# Altium footprint library SamacSys.PcbLib: 28 footprints (part 1 of 2)
Each footprint in its own frame and in the unit in brackets; x right, y up, seen from the top. Pads: shape width x height; smd on the part's side, far side on the other; paste and mask are expansions set on the pad; w line width, h text height; cw(c..) or ccw(c..) is an arc to the next point about the centre after c.
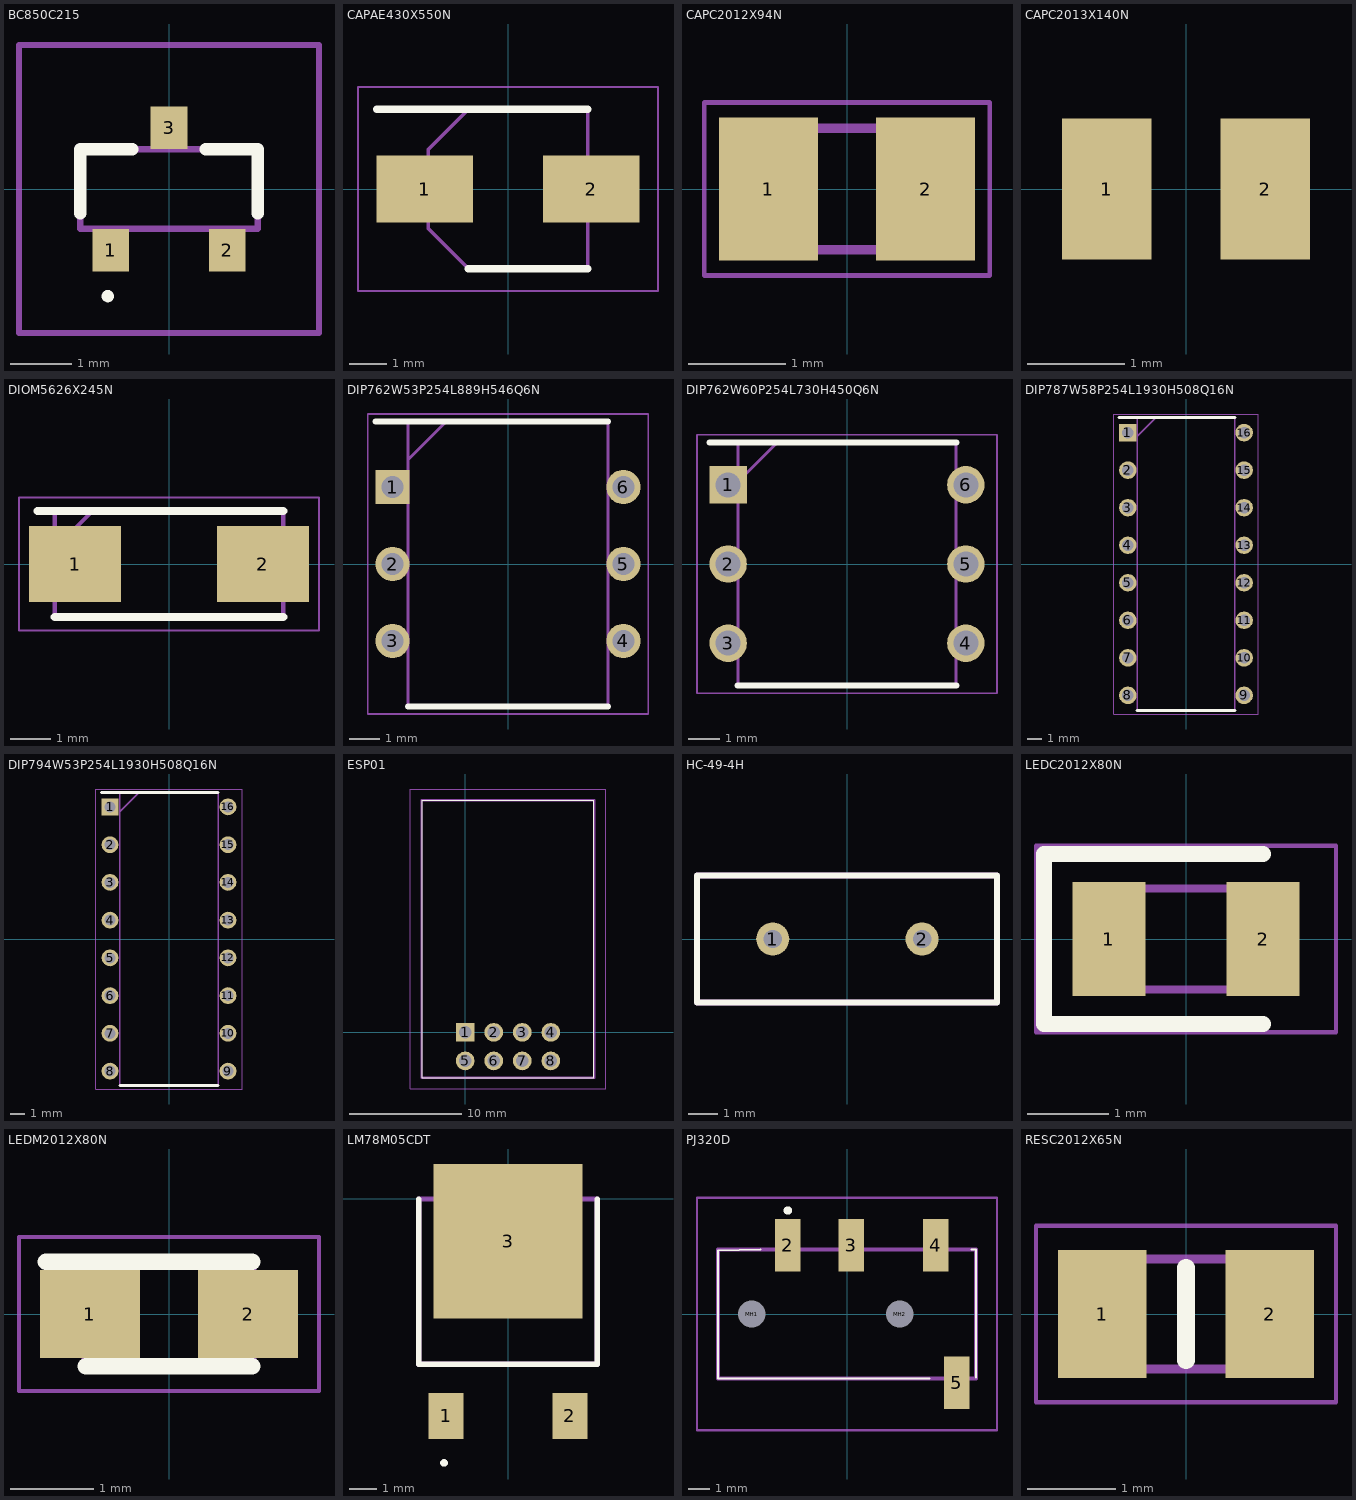
[diagram p0: the footprints below, top view; thin cyan lines are the x and y axes]

## BC850C215 [mm]
pads (3):
  rect 0.6x0.7 smd: 1(-0.95,-1) 2(0.95,-1) 3(0,1)
Top Overlay:
  lines w0.1: -1,-1.8 cw(c-1,-1.75) -1,-1.7 cw(c-1,-1.75) -1,-1.8
  lines w0.2: -1.45,-0.4 -1.45,0.65 -0.6,0.65 ; 0.6,0.65 1.45,0.65 1.45,-0.4
Mechanical 13:
  lines w0.1: -1.45,-0.65 -1.45,0.65 1.45,0.65 1.45,-0.65 -1.45,-0.65
Mechanical 15:
  lines w0.1: -2.45,-2.35 -2.45,2.35 2.45,2.35 2.45,-2.35 -2.45,-2.35
3D body "BC850C,215.stp": height 0.95, standoff 0, extent -1.452,-1.201 1.448,1.199

## CAPAE430X550N [mm]
pads (2):
  rect 2.6x1.8 smd: 1(-2.25,0) 2(2.25,0)
Top Overlay:
  lines w0.2: -3.55,2.15 2.15,2.15 ; -1.075,-2.15 2.15,-2.15
Mechanical 13:
  lines w0.1: -2.15,-1.075 -1.075,-2.15 2.15,-2.15 2.15,2.15 -1.075,2.15 -2.15,1.075 -2.15,-1.075
Mechanical 15:
  lines w0.05: -4.05,-2.75 -4.05,2.75 4.05,2.75 4.05,-2.75 -4.05,-2.75
3D body "AVS106M16B12T-F.stp": height 5.5, standoff 0, extent -2.75,-2.25 2.75,2.25

## CAPC2012X94N [mm]
pads (2):
  rect 1.02x1.47 smd: 1(-0.81,0) 2(0.81,0)
Mechanical 13:
  lines w0.1: -1.005,-0.625 -1.005,0.625 1.005,0.625 1.005,-0.625 -1.005,-0.625
Mechanical 15:
  lines w0.05: -1.47,-0.89 -1.47,0.89 1.47,0.89 1.47,-0.89 -1.47,-0.89
3D body "08055A331FAT2A.stp": height 0.94, standoff 0, extent -1.005,-0.625 1.005,0.625

## CAPC2013X140N [mil]
pads (2):
  rect 36x57 smd: 1(-32,0) 2(32,0)
3D body "08053C474JAT2A.stp": height 49.41, standoff 0.2, extent -39.57,-26.57 39.57,26.57

## DIOM5626X245N [mm]
pads (2):
  rect 2.25x1.85 smd: 1(-2.3,0) 2(2.3,0)
Top Overlay:
  lines w0.2: -3.225,1.3 2.8,1.3 ; -2.8,-1.3 2.8,-1.3
Mechanical 13:
  lines w0.1: -2.8,0.375 -1.875,1.3 ; -2.8,-1.3 -2.8,1.3 2.8,1.3 2.8,-1.3 -2.8,-1.3
Mechanical 15:
  lines w0.05: -3.675,-1.625 -3.675,1.625 3.675,1.625 3.675,-1.625 -3.675,-1.625
3D body "M7.stp": height 2.45, standoff 0, extent -2.8,-1.3 2.8,1.3

## DIP762W53P254L889H546Q6N [mm]
pads (6):
  rect 1.134x1.134 hole 0.734: 1(-3.81,2.54)
  round 1.134 hole 0.734: 2(-3.81,0) 3(-3.81,-2.54) 4(3.81,-2.54) 5(3.81,0) 6(3.81,2.54)
Top Overlay:
  lines w0.2: -4.377,4.7 3.305,4.7 ; -3.305,-4.7 3.305,-4.7
Mechanical 13:
  lines w0.1: -3.305,3.43 -2.035,4.7 ; -3.305,-4.7 -3.305,4.7 3.305,4.7 3.305,-4.7 -3.305,-4.7
Mechanical 15:
  lines w0.05: -4.627,-4.95 -4.627,4.95 4.627,4.95 4.627,-4.95 -4.627,-4.95
3D body "4N35.stp": height 5.46, standoff -3.5, extent -3.943,-4.445 3.943,4.445

## DIP762W60P254L730H450Q6N [mm]
pads (6):
  rect 1.2x1.2 hole 0.8: 1(-3.81,2.54)
  round 1.2 hole 0.8: 2(-3.81,0) 3(-3.81,-2.54) 4(3.81,-2.54) 5(3.81,0) 6(3.81,2.54)
Top Overlay:
  lines w0.2: -4.41,3.9 3.5,3.9 ; -3.5,-3.9 3.5,-3.9
Mechanical 13:
  lines w0.1: -3.5,2.63 -2.23,3.9 ; -3.5,-3.9 3.5,-3.9 3.5,3.9 -3.5,3.9 -3.5,-3.9
Mechanical 15:
  lines w0.05: -4.81,-4.15 4.81,-4.15 4.81,4.15 -4.81,4.15 -4.81,-4.15
3D body "MOC3021.stp": height 4.5, standoff -3.5, extent -3.96,-3.65 3.96,3.65

## DIP787W58P254L1930H508Q16N [mil]
pads (16):
  rect 46.61x46.61 hole 30.87: 1(-155,350)
  round 46.61 hole 30.87: 2(-155,250) 3(-155,150) 4(-155,50) 5(-155,-50) 6(-155,-150) 7(-155,-250) 8(-155,-350) 9(155,-350) 10(155,-250) 11(155,-150) 12(155,-50) 13(155,50) 14(155,150) 15(155,250) 16(155,350)
Top Overlay:
  lines w7.87: -178.31,389.96 130,389.96 ; -130,-389.96 130,-389.96
Mechanical 13:
  lines w3.94: -130,339.96 -80,389.96 ; -130,-389.96 -130,389.96 130,389.96 130,-389.96 -130,-389.96
Mechanical 15:
  lines w1.97: -193.15,-399.8 -193.15,399.8 193.15,399.8 193.15,-399.8 -193.15,-399.8
3D body "CD4051BCN.stp": height 200, standoff -137.8, extent -160.75,-380.02 160.75,380.02

## DIP794W53P254L1930H508Q16N [mm]
pads (16):
  rect 1.13x1.13 hole 0.73: 1(-3.97,8.89)
  round 1.13 hole 0.73: 2(-3.97,6.35) 3(-3.97,3.81) 4(-3.97,1.27) 5(-3.97,-1.27) 6(-3.97,-3.81) 7(-3.97,-6.35) 8(-3.97,-8.89) 9(3.97,-8.89) 10(3.97,-6.35) 11(3.97,-3.81) 12(3.97,-1.27) 13(3.97,1.27) 14(3.97,3.81) 15(3.97,6.35) 16(3.97,8.89)
Top Overlay:
  lines w0.2: -4.535,9.845 3.3,9.845 ; -3.3,-9.845 3.3,-9.845
Mechanical 13:
  lines w0.1: -3.3,8.575 -2.03,9.845 ; -3.3,-9.845 -3.3,9.845 3.3,9.845 3.3,-9.845 -3.3,-9.845
Mechanical 15:
  lines w0.05: -4.945,-10.095 -4.945,10.095 4.945,10.095 4.945,-10.095 -4.945,-10.095
3D body "CD4051BEE4.stp": height 5.27, standoff -3.1, extent -3.937,-9.842 3.937,9.842

## ESP01 [mm]
pads (8):
  rect 1.665x1.665 hole 1.11: 1(0,0)
  round 1.665 hole 1.11: 2(2.54,0) 3(5.08,0) 4(7.62,0) 5(0,-2.54) 6(2.54,-2.54) 7(5.08,-2.54) 8(7.62,-2.54)
Top Overlay:
  lines w0.1: -3.81,-4.04 -3.81,20.66 11.43,20.66 11.43,-4.04 -3.81,-4.04
Mechanical 13:
  lines w0.2: -3.89,-4.04 -3.89,20.66 11.51,20.66 11.51,-4.04 -3.89,-4.04
Mechanical 15:
  lines w0.1: -4.89,-5.04 -4.89,21.66 12.51,21.66 12.51,-5.04 -4.89,-5.04
3D body "ESP-01.stp": height 2.75, standoff 0, extent -3.56,-3.98 10.84,20.72

## HC-49-4H [mm]
pads (2):
  round 1.13 hole 0.63: 1(-2.54,0) 2(2.567,0)
Top Overlay:
  lines w0.2: -5.13,-2.17 5.13,-2.17 5.13,2.17 -5.13,2.17 -5.13,-2.17
Mechanical 13:
  lines w0.2: -5.13,-2.17 -5.13,2.17 5.13,2.17 5.13,-2.17 -5.13,-2.17
3D body "crystal-8MHz.stp": height 3.51, standoff -3.5, extent -5.5,-2.25 5.5,2.25

## LEDC2012X80N [mm]
pads (2):
  rect 0.9x1.4 smd: 1(-0.95,0) 2(0.95,0)
Top Overlay:
  lines w0.2: 0.95,-1.05 -1.75,-1.05 -1.75,1.05 0.95,1.05
Mechanical 13:
  lines w0.1: -1,0.208 -0.583,0.625 ; -1,-0.625 -1,0.625 1,0.625 1,-0.625 -1,-0.625
Mechanical 15:
  lines w0.05: -1.85,-1.15 -1.85,1.15 1.85,1.15 1.85,-1.15 -1.85,-1.15
3D body "150080BS75000.stp": height 0.7, standoff 0, extent -1.03,-0.625 0.97,0.625

## LEDM2012X80N [mm]
pads (2):
  rect 1.2x1.05 smd: 1(-0.95,0) 2(0.95,0)
Top Overlay:
  lines w0.2: -1.475,0.625 1,0.625 ; -1,-0.625 1,-0.625
Mechanical 13:
  lines w0.1: -1,0.1 -0.475,0.625 ; -1,-0.625 -1,0.625 1,0.625 1,-0.625 -1,-0.625
Mechanical 15:
  lines w0.05: -1.8,-0.925 -1.8,0.925 1.8,0.925 1.8,-0.925 -1.8,-0.925
3D body "150080GS75000.stp": height 0.7, standoff 0, extent -1,-0.625 1,0.625

## LM78M05CDT [mm]
pads (3):
  rect 1.3x1.7 smd: 1(-2.285,-8) 2(2.285,-8)
  rect 5.5x5.7 smd: 3(0,-1.56)
Top Overlay:
  circle w0.2: c-2.359,-9.73 r0.04
  lines w0.2: -3.29,0 -3.29,-6.1 3.29,-6.1 3.29,0
Mechanical 13:
  lines w0.2: -3.29,-6.1 -3.29,0 3.29,0 3.29,-6.1 -3.29,-6.1
3D body "LM317AMDTX_NOPB.stp": height 2.46, standoff -0.26, extent -3.315,-9.246 3.415,1.71

## PJ320D [mm]
pads (6):
  rect 1.2x2.5 smd: 2(-2.8,3.25) 3(0.2,3.25) 4(4.2,3.25) 5(5.2,-3.25)
  round 0.65 hole 1.3 unplated: MH1(-4.5,0) MH2(2.5,0)
Top Overlay:
  lines w0.1: -4.1,3.05 -6.1,3 -6.1,-3 -6.1,-3.05 3.9,-3.05 ; 5.9,3.05 6.1,3.05 6.1,-3
  lines w0.2: -2.9,4.9 ccw(c-2.8,4.9) -2.7,4.9 ccw(c-2.8,4.9) -2.9,4.9
Mechanical 13:
  lines w0.2: -6.1,-3.05 -6.1,3.05 6.1,3.05 6.1,-3.05 -6.1,-3.05
Mechanical 15:
  lines w0.1: -7.1,-5.5 -7.1,5.5 7.1,5.5 7.1,-5.5 -7.1,-5.5
3D body "PJ-320D.stp": height 5.37, standoff -0.63, extent -8.31,-4 5.99,4

## RESC2012X65N [mm]
pads (2):
  rect 1x1.45 smd: 1(-0.95,0) 2(0.95,0)
Top Overlay:
  lines w0.2: 0,-0.525 0,0.525
Mechanical 13:
  lines w0.1: -1,-0.625 -1,0.625 1,0.625 1,-0.625 -1,-0.625
Mechanical 15:
  lines w0.05: -1.7,-1 -1.7,1 1.7,1 1.7,-1 -1.7,-1
3D body "CPF0805B10K5E1.stp": height 0.46, standoff 0, extent -0.775,-0.4 0.775,0.4